# Altium schematic symbol library Other-JS19.SchLib: 1 symbol
Pins are listed as number, name and electrical type; pins without a type are passive.

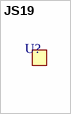
[diagram p0: symbol JS19]

## JS19
designator U?  (no BOM)